# Altium schematic symbol library RESISTOR.SchLib: 1 symbol
Pins are listed as number, name and electrical type; pins without a type are passive.

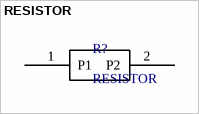
[diagram p0: symbol RESISTOR]

## RESISTOR
designator R?
Basic resistor symbol
pins: 1 P1, 2 P2